# EAGLE library part 4816P-T01E (library 1A-meinLib)
BOURNS RESISTOR NETWORK
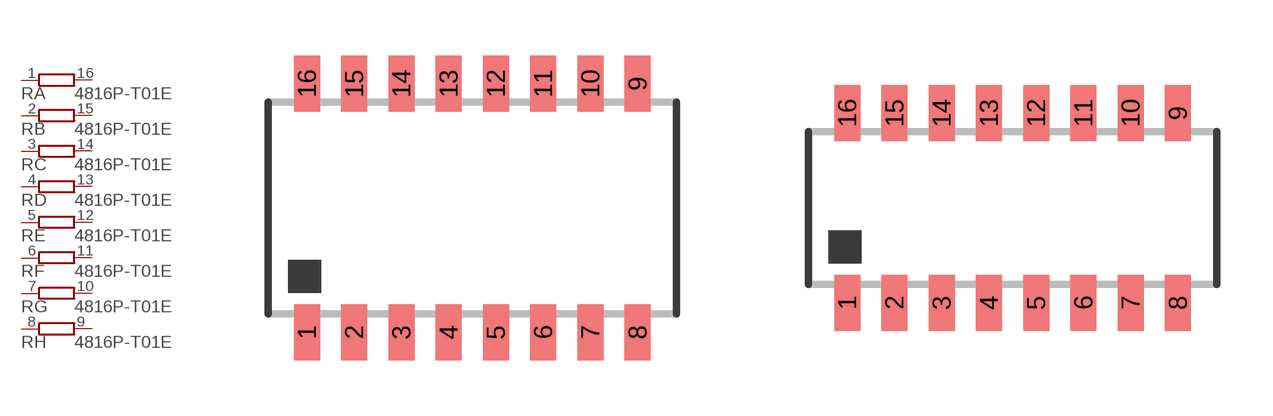
[diagram p323: symbol with the pads of 4816P; footprints 4816P, JEDEC_MS-012_16]

Designator prefix R; gates A=R1NV B=R1NV C=R1NV D=R1NV E=R1NV F=R1NV G=R1NV H=R1NV

## 4816P-T01E  [4816P]
1  A:1  pas
2  B:1  pas
3  C:1  pas
4  D:1  pas
5  E:1  pas
6  F:1  pas
7  G:1  pas
8  H:1  pas
9  H:2  pas
10  G:2  pas
11  F:2  pas
12  E:2  pas
13  D:2  pas
14  C:2  pas
15  B:2  pas
16  A:2  pas

## 4816P-T01ENOMC  [JEDEC_MS-012_16]
Pads as for 4816P

## Footprint 4816P (pad centres in mm)
BOURNS RESISTOR NETWORK
smd 0.7 x 1.5: 1 -4.445,-3.346; 2 -3.175,-3.346; 3 -1.905,-3.346; 4 -0.635,-3.346; 5 0.635,-3.346; 6 1.905,-3.346; 7 3.175,-3.346; 8 4.445,-3.346; 9 4.445,3.346; 10 3.175,3.346; 11 1.905,3.346; 12 0.635,3.346; 13 -0.635,3.346; 14 -1.905,3.346; 15 -3.175,3.346; 16 -4.445,3.346

## Footprint JEDEC_MS-012_16 (pad centres in mm)
Molded, 50 mil Pitch Dual-In-Line Resistor Narrow Body, Surface Mount Nertwork JEDEC MS-012
smd 0.7 x 1.5: 1 -4.445,-3.346; 2 -3.175,-3.346; 3 -1.905,-3.346; 4 -0.635,-3.346; 5 0.635,-3.346; 6 1.905,-3.346; 7 3.175,-3.346; 8 4.445,-3.346; 9 4.445,1.758; 10 3.175,1.758; 11 1.905,1.758; 12 0.635,1.758; 13 -0.635,1.758; 14 -1.905,1.758; 15 -3.175,1.758; 16 -4.445,1.758